# EAGLE library part CON_HIROSE_DM3* (library con-microsd-hirose-dm3)
Hirose μSD card socket without ejection mechanism. size: Approx 12x12 mm, Mfg. Part No.: DM3D-SF, Digikey Part No.: HR1941CT-ND
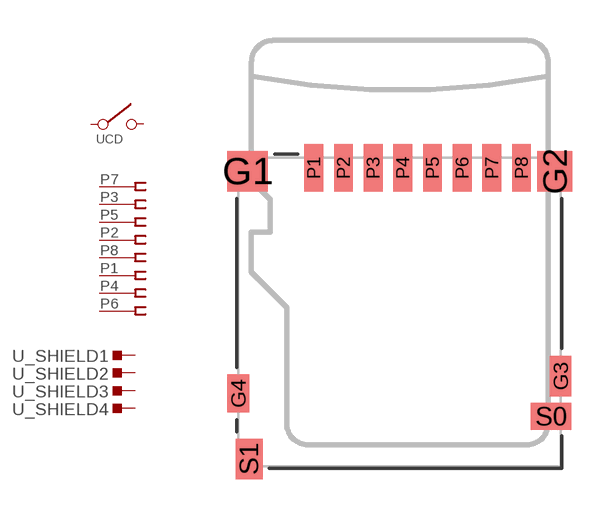
[diagram p0: symbol with the pads of HIROSE_DM3D(MICRO-SD); footprint HIROSE_DM3D(MICRO-SD)]

Designator prefix -; gates $=CONN_RECEP_8GPS CD=SW_SPST _SHIELD1=PAD+NAME _SHIELD2=PAD+NAME _SHIELD3=PAD+NAME _SHIELD4=PAD+NAME

## CON_HIROSE_DM3D(MICROSD)  [HIROSE_DM3D(MICRO-SD)]
G1  _SHIELD1:PAD  pas
G2  _SHIELD2:PAD  pas
G3  _SHIELD3:PAD  pas
G4  _SHIELD4:PAD  pas
P1  $:1  pas
P2  $:2  pas
P3  $:3  pas
P4  $:4  pas
P5  $:5  pas
P6  $:6  pas
P7  $:7  pas
P8  $:8  pas
S0  CD:0  pas
S1  CD:1  pas

## Footprint HIROSE_DM3D(MICRO-SD) (pad centres in mm)
Hirose μSD card socket, push-pull without ejection mechanism. Approx 12x12 mm
smd 1.5 x 1.5: G1 -7.782,10.035
smd 1.3 x 1.5: G2 3.593,10.035
smd 0.8 x 1.5: G3 3.818,2.435
smd 0.8 x 1.4: G4 -8.132,1.785
smd 0.7 x 1.75: P1 -5.332,10.16; P2 -4.232,10.16; P3 -3.132,10.16; P4 -2.032,10.16; P5 -0.932,10.16; P6 0.168,10.16; P7 1.268,10.16; P8 2.368,10.16
smd 1.5 x 1: S0 3.468,0.935
smd 1 x 1.5: S1 -7.732,-0.64